# Altium footprint library 142-0701-201.PcbLib: 1 footprints
Each footprint in its own frame and in the unit in brackets; x right, y up, seen from the top. Pads: shape width x height; smd on the part's side, far side on the other; paste and mask are expansions set on the pad; w line width, h text height; cw(c..) or ccw(c..) is an arc to the next point about the centre after c.
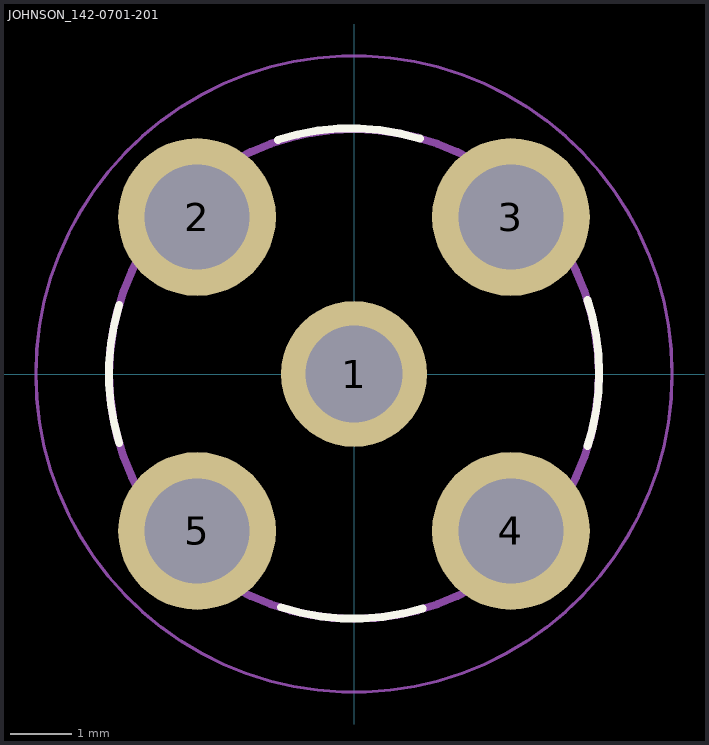
[diagram p0: the footprint, top view; thin cyan lines are the x and y axes]

## JOHNSON_142-0701-201 [mil]
pads (5):
  round 93 hole 62: 1(0,0)
  round 100.5 hole 67: 2(-100,100) 3(100,100) 4(100,-100) 5(-100,-100)
Top Overlay:
  lines w5: -149.6,-44.02 cw(c-5.62,0) -149.6,44.02 ; -48.5,149.21 cw(c-1.97,6.01) 42.05,150 ; -46.72,-148.62 ccw(c-0.2,-5.42) 43.82,-149.41 ; 148.81,-45.94 ccw(c5.62,0.59) 148.81,47.12
Mechanical 13:
  circle w5: c0,0 r156
Mechanical 15:
  circle w1.97: c0,0 r202.76
3D body "step_temp.STEP": height 380, standoff -150, extent -156,-156 156,156